# EAGLE library part 691305130008 (library Wurth_Connectors_WR-TBL Pluggable Connector)
WR-TBL Serie 3051 - 3.50 mm Vertical PCB Header KIND PROPERTIES Pitch 3.5 mm MATERIAL PROPERTIES Insulator Material PA66 Insulator Flammability Rating UL94 V-0 Insulator Color Green Contact Material Copper Alloy Contact Plating Tin GENERAL INFORMATION Operating Temperature -40 up to +105 °C Compliance Lead free / RoHS ELECTRICAL PROPERTIES IR UL 12 A Working Voltage [UL] 300 V (AC) Withstanding Voltage [UL] 2500 V (AC) Contact Resistance 20 mΩ CERTIFICATION UL Approval E315414 <https://katalog.we-online.com/media/images/v2/o84262v209%20Family_WR-TBL3_6913051300xx.jpg> Details see: https://katalog.we-online.com/en/em/TBL_3_50_3051_VERTICAL_PCB_HEADER_6913051300xx Updated by Ella Wu 2019-12-18 2022(C) Wurth Elektronik
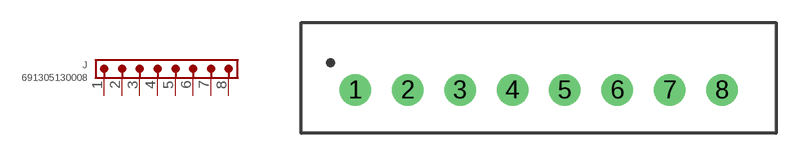
[diagram p35: symbol with the pads of 691305130008; footprint 691305130008]

Designator prefix J

## 691305130008 (DATASHEET-URL: https://www.we-online.com/redexpert/spec/691305130008?ae; IR-UL: 12A; MOUNT: THT; PART-NUMBER: 691305130008; PINS: 8; PITCH: 3.5mm; TYPE: Vertical; VALUE: 691305130008; WORKING-VOLTAGE-UL: 300V (AC))  [691305130008]
1  1  pas
2  2  pas
3  3  pas
4  4  pas
5  5  pas
6  6  pas
7  7  pas
8  8  pas

## Footprint 691305130008 (pad centres in mm)
WR-TBL Serie 3051 - 3.50 mm Vertical PCB Header Max Height = 9.2mm , Pitch 3.5mm , 8pins
drill 1.4: 1 -12.25,0; 2 -8.75,0; 3 -5.25,0; 4 -1.75,0; 5 1.75,0; 6 5.25,0; 7 8.75,0; 8 12.25,0